# Altium schematic symbol library 电阻、电容、电感.SchLib: 7 symbols
Pins are listed as number, name and electrical type; pins without a type are passive.

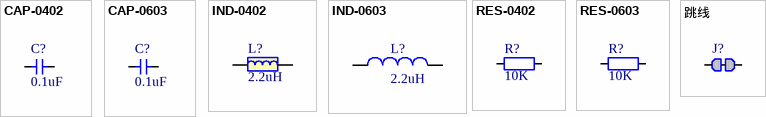
[diagram p0: symbols CAP-0402 to 跳线]

## CAP-0402
designator C?, comment 0.1uF
Value: 0.1u
footprint CAP-0402
pins: 1, 2

## CAP-0603
designator C?, comment 0.1uF
Value: 0.1u
footprint CAP-0603
pins: 1, 2

## IND-0402
designator L?, comment 2.2uH
footprint IND-0402
pins: 1, 2

## IND-0603
designator L?, comment 2.2uH
MP: LQP03TN91NJ02D; Package: None; Price: None; Value: *; Availability: Unavailable
footprint IND-0603
pins: 1, 2

## RES-0402
designator R?, comment 10K
Value: 22R
footprint RES-0402
pins: 1, 2

## RES-0603
designator R?, comment 10K
Value: 22R
footprint RES-0603
pins: 1, 2

## 跳线
designator J?  (value not drawn)
Published: 8-Jun-2000; LatestRevisionDate: 17-Jul-2002; LatestRevisionNote: Re-released for DXP Platform.; PackageReference: AXIAL-0.4; Publisher: Altium Limited; PackageDescription: Axial Device, Thru-Hole; 2 Leads; 0.4 in Pin Spacing
footprint 0R-0402
pins: 1, 2